# Altium footprint library Sullins.PcbLib: 2 footprints
Each footprint in its own frame and in the unit in brackets; x right, y up, seen from the top. Pads: shape width x height; smd on the part's side, far side on the other; paste and mask are expansions set on the pad; w line width, h text height; cw(c..) or ccw(c..) is an arc to the next point about the centre after c.
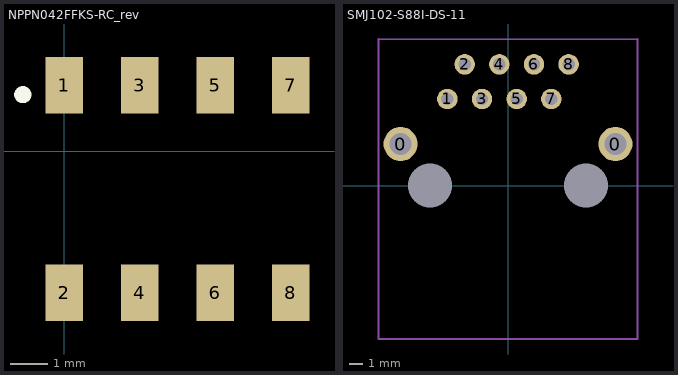
[diagram p0: the footprints below, top view; thin cyan lines are the x and y axes]

## NPPN042FFKS-RC_rev [mm] "2mm header receptacle with bottom entry"
height 4.4
pads (8):
  rect 1x1.5 smd: 1(0,1.75) 2(0,-3.75) 3(2,1.75) 4(2,-3.75) 5(4,1.75) 6(4,-3.75) 7(6,1.75) 8(6,-3.75)
Top Overlay:
  circle w0.254: c-1.1,1.5 r0.1
3D body: height 4.4, standoff 0, extent -1,-3 7,1

## SMJ102-S88I-DS-11 [mm] "10/100BASE-T Jack with Magnetics"
height 13.85
pads (12):
  round 2.5 hole 1.6: 0(-7.875,3.05) 0(7.875,3.05)
  round 0 hole 3.25: 0(-5.715,0) 0(5.715,0)
  round 1.5 hole 0.9: 1(-4.445,6.35) 2(-3.175,8.89) 3(-1.905,6.35) 4(-0.635,8.89) 5(0.635,6.35) 6(1.905,8.89) 7(3.175,6.35) 8(4.445,8.89)
Mechanical 15:
  lines w0.1: -9.5,10.75 9.5,10.75
  lines w0.127: -9.5,10.75 -9.5,-11.25 9.5,-11.25 9.5,10.75
3D body: height 13.85, standoff 0, extent -8,-10.92 8,10.53